# Altium schematic symbol library TP6841S6-A.SchLib: 1 symbol
Pins are listed as number, name and electrical type; pins without a type are passive.

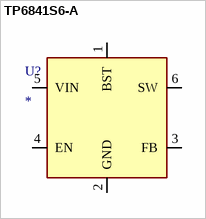
[diagram p0: symbol TP6841S6-A]

## TP6841S6-A
designator U?
Value: *
pins: 1 BST, 2 GND, 3 FB, 4 EN, 5 VIN, 6 SW